# EAGLE library part 74HC2G04GV (library dip_switch)
Nexperia - 74HC2G04GV Dual Inverter The 74HC2G04 is a dual inverter. Inputs include clamp diodes that enable the use of current limiting resistors to interface inputs to voltages in excess of VCC
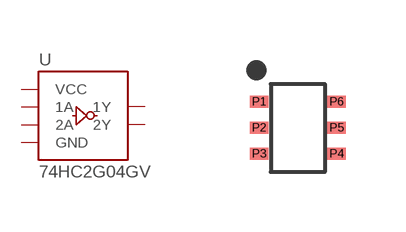
[diagram p1: symbol with the pads of TSSOP6; footprint TSSOP6]

Designator prefix U

## 74HC2G04GV  [TSSOP6]
P1  1A  in
P2  GND  pwr
P3  2A  in
P4  1Y  out
P5  VCC  pwr
P6  2Y  out

## Footprint TSSOP6 (pad centres in mm)
TSSOP-6 Mechanical Specifications: Pad Size: .46mm x .3mm Pin count: 6 Pin pitch: .65mm Package Size: 2.2mm x 1.35mm Datasheet referenced for footprint <https://assets.nexperia.com/documents/data-sheet/74HC_HCT2G04.pdf>
smd 0.46 x 0.3: P1 -0.294,1.75; P2 -0.294,1.1; P3 -0.294,0.45; P4 1.646,0.45; P5 1.646,1.1; P6 1.646,1.75